# Altium footprint library SOIC14_300.PcbLib: 1 footprints
Each footprint in its own frame and in the unit in brackets; x right, y up, seen from the top. Pads: shape width x height; smd on the part's side, far side on the other; paste and mask are expansions set on the pad; w line width, h text height; cw(c..) or ccw(c..) is an arc to the next point about the centre after c.
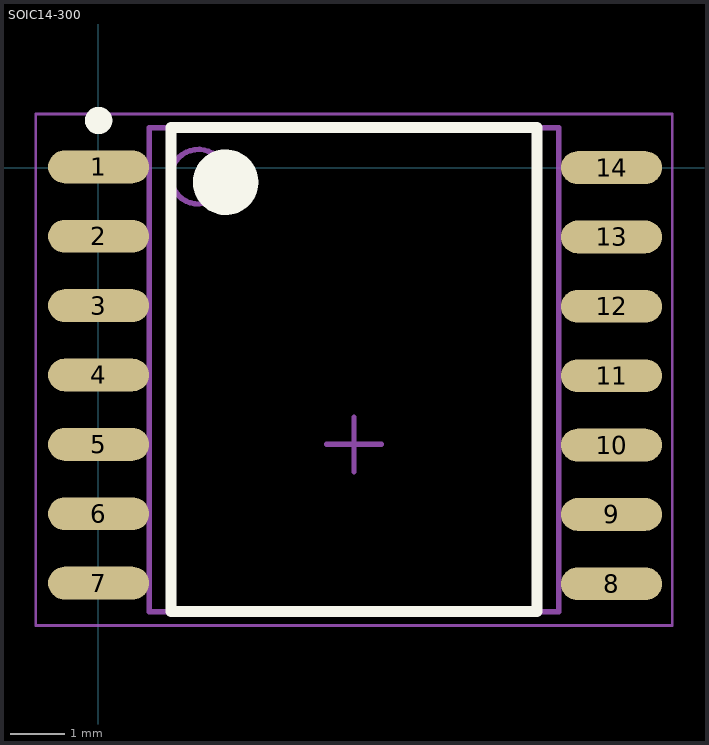
[diagram p0: the footprint, top view; thin cyan lines are the x and y axes]

## SOIC14-300 [mm]
pads (14):
  oval 1.85x0.6 smd: 1(0.009,0.013) 2(0.009,-1.257) 3(0.009,-2.527) 4(0.009,-3.797) 5(0.009,-5.067) 6(0.009,-6.337) 7(0.009,-7.607) 8(9.398,-7.62) 9(9.398,-6.35) 10(9.398,-5.08) 11(9.398,-3.81) 12(9.398,-2.54) 13(9.398,-1.27) 14(9.398,0)
Top Overlay:
  circle w0.25: c0.009,0.863 r0.125
  circle w0.6: c2.334,-0.267 r0.3
  lines w0.2: 1.334,-8.128 1.334,0.733 8.034,0.733 8.034,-8.128 1.334,-8.128
Mechanical 13:
  circle w0.1: c1.834,-0.167 r0.5
  lines w0.1: 0.934,-8.128 0.934,0.733 8.434,0.733 8.434,-8.128 0.934,-8.128
Mechanical 15:
  lines w0.05: -1.141,-8.382 -1.141,0.983 10.509,0.983 10.509,-8.382 -1.141,-8.382
  lines w0.1: 4.184,-5.067 5.184,-5.067 ; 4.684,-5.567 4.684,-4.567
3D body "User Library-SOIC14WB.STEP": height 2.67, standoff -0.04, extent -0.424,-8.31 10.076,0.69